# Altium schematic symbol library Cap_SMD.SchLib: 36 symbols
Pins are listed as number, name and electrical type; pins without a type are passive.

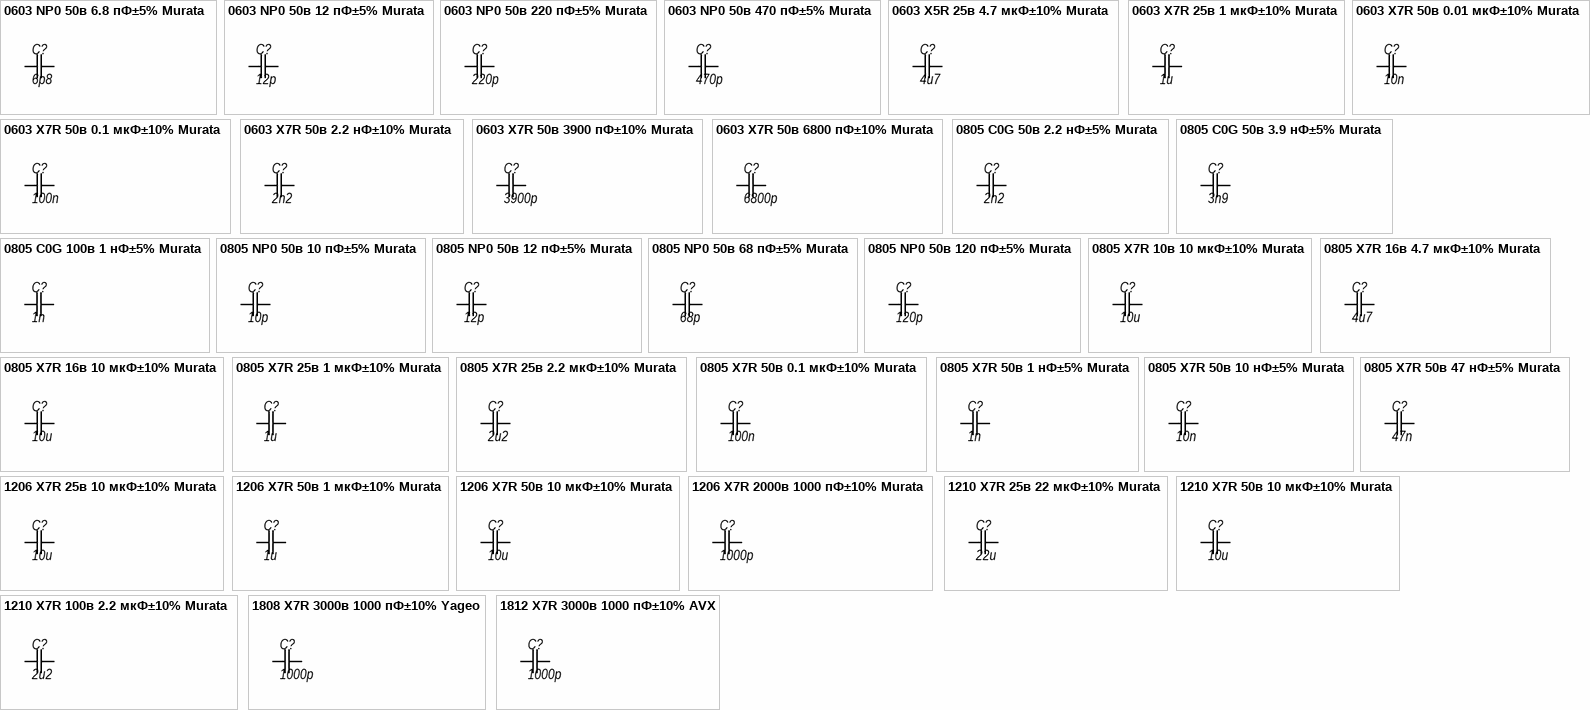
[diagram p0: symbols 0603 NP0 50в 6.8 пФ±5% Murata to 1812 X7R 3000в 1000 пФ±10% AVX]

## 0603 NP0 50в 6.8 пФ±5% Murata
designator C?, comment 6p8
Partnumber: =Identifier
footprint CAP0603
pins: 1, 2

## 0603 NP0 50в 12 пФ±5% Murata
designator C?, comment 12p
Partnumber: =Identifier
footprint CAP0603
pins: 1, 2

## 0603 NP0 50в 220 пФ±5% Murata
designator C?, comment 220p
Partnumber: =Identifier
footprint CAP0603
pins: 1, 2

## 0603 NP0 50в 470 пФ±5% Murata
designator C?, comment 470p
Partnumber: =Identifier
footprint CAP0603
pins: 1, 2

## 0603 X5R 25в 4.7 мкФ±10% Murata
designator C?, comment 4u7
Partnumber: 0603 X5R 25в 4.7 мкФ±10% Murata
footprint CAP0603
pins: 1, 2

## 0603 X7R 25в 1 мкФ±10% Murata
designator C?, comment 1u
Partnumber: =Identifier
footprint CAP0603
pins: 1, 2

## 0603 X7R 50в 0.01 мкФ±10% Murata
designator C?, comment 10n
Partnumber: =Identifier
footprint CAP0603
pins: 1, 2

## 0603 X7R 50в 0.1 мкФ±10% Murata
designator C?, comment 100n
Partnumber: =Identifier
footprint CAP0603
pins: 1, 2

## 0603 X7R 50в 2.2 нФ±10% Murata
designator C?, comment 2n2
Partnumber: =Identifier
footprint CAP0603
pins: 1, 2

## 0603 X7R 50в 3900 пФ±10% Murata
designator C?, comment 3900p
Partnumber: =Identifier
footprint CAP0603
pins: 1, 2

## 0603 X7R 50в 6800 пФ±10% Murata
designator C?, comment 6800p
Partnumber: 0603 X7R 50в 6800 пФ±10% Murata
footprint CAP0603
pins: 1, 2

## 0805 C0G 50в 2.2 нФ±5% Murata
designator C?, comment 2n2
Partnumber: =Identifier
footprint CAP0805
pins: 1, 2

## 0805 C0G 50в 3.9 нФ±5% Murata
designator C?, comment 3n9
Partnumber: =Identifier
footprint CAP0805
pins: 1, 2

## 0805 C0G 100в 1 нФ±5% Murata
designator C?, comment 1n
Partnumber: =Identifier
footprint CAP0805
pins: 1, 2

## 0805 NP0 50в 10 пФ±5% Murata
designator C?, comment 10p
Partnumber: =Identifier
footprint CAP0805
pins: 1, 2

## 0805 NP0 50в 12 пФ±5% Murata
designator C?, comment 12p
Partnumber: =Identifier
footprint CAP0805
pins: 1, 2

## 0805 NP0 50в 68 пФ±5% Murata
designator C?, comment 68p
Partnumber: =Identifier
footprint CAP0805
pins: 1, 2

## 0805 NP0 50в 120 пФ±5% Murata
designator C?, comment 120p
Partnumber: =Identifier
footprint CAP0805
pins: 1, 2

## 0805 X7R 10в 10 мкФ±10% Murata
designator C?, comment 10u
Partnumber: =Identifier
footprint CAP0805
pins: 1, 2

## 0805 X7R 16в 4.7 мкФ±10% Murata
designator C?, comment 4u7
footprint CAP0805
pins: 1, 2

## 0805 X7R 16в 10 мкФ±10% Murata
designator C?, comment 10u
Partnumber: =Identifier
footprint CAP0805
pins: 1, 2

## 0805 X7R 25в 1 мкФ±10% Murata
designator C?, comment 1u
Partnumber: =Identifier
footprint CAP0805
pins: 1, 2

## 0805 X7R 25в 2.2 мкФ±10% Murata
designator C?, comment 2u2
Partnumber: 0805 X7R 25в 2.2 мкФ±10% Murata
footprint CAP0805
pins: 1, 2

## 0805 X7R 50в 0.1 мкФ±10% Murata
designator C?, comment 100n
Partnumber: =Identifier
footprint CAP0805
pins: 1, 2

## 0805 X7R 50в 1 нФ±5% Murata
designator C?, comment 1n
Partnumber: =Identifier
footprint CAP0805
pins: 1, 2

## 0805 X7R 50в 10 нФ±5% Murata
designator C?, comment 10n
Partnumber: =Identifier
footprint CAP0805
pins: 1, 2

## 0805 X7R 50в 47 нФ±5% Murata
designator C?, comment 47n
Partnumber: =Identifier
footprint CAP0805
pins: 1, 2

## 1206 X7R 25в 10 мкФ±10% Murata
designator C?, comment 10u
Partnumber: =Identifier
footprint CAP1206
pins: 1, 2

## 1206 X7R 50в 1 мкФ±10% Murata
designator C?, comment 1u
Partnumber: =Identifier
footprint CAP1206
pins: 1, 2

## 1206 X7R 50в 10 мкФ±10% Murata
designator C?, comment 10u
Partnumber: =Identifier
footprint CAP1206
pins: 1, 2

## 1206 X7R 2000в 1000 пФ±10% Murata
designator C?, comment 1000p
Partnumber: =Identifier
footprint CAP1206
pins: 1, 2

## 1210 X7R 25в 22 мкФ±10% Murata
designator C?, comment 22u
Partnumber: =Identifier
footprint CAP1210
pins: 1, 2

## 1210 X7R 50в 10 мкФ±10% Murata
designator C?, comment 10u
Partnumber: =Identifier
footprint CAP1210
pins: 1, 2

## 1210 X7R 100в 2.2 мкФ±10% Murata
designator C?, comment 2u2
Partnumber: =Identifier
footprint CAP1210
pins: 1, 2

## 1808 X7R 3000в 1000 пФ±10% Yageo
designator C?, comment 1000p
footprint CAP1808
pins: 1, 2

## 1812 X7R 3000в 1000 пФ±10% AVX
designator C?, comment 1000p
Partnumber: 1812 X7R 3000в 1000 пФ±10% AVX
footprint CAP1812
pins: 1, 2